# EAGLE library part HD-N103 (library display-hp)
LED DISPLAY 1-character 7 segment, decimal point right
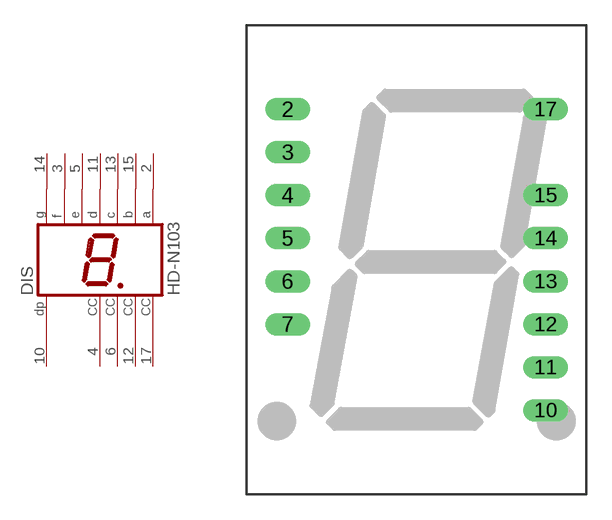
[diagram p29: symbol with the pads of HDSP-Q; footprint HDSP-Q]

Designator prefix DIS

## HD-N103 (OC_FARNELL: unknown; OC_NEWARK: unknown)  [HDSP-Q]
2  A  pas
3  F  pas
4  CC  pas
5  E  pas
6  CC  pas
10  DP  pas
11  D  pas
12  CC  pas
13  C  pas
14  G  pas
15  B  pas
17  CC  pas

## Footprint HDSP-Q (pad centres in mm)
LED DISPLAY 20-mm 1 character 7 segment, 2 decimal points
drill 0.813 long: 2 -7.62,8.89; 3 -7.62,6.35; 4 -7.62,3.81; 5 -7.62,1.27; 6 -7.62,-1.27; 7 -7.62,-3.81; 10 7.62,-8.89; 11 7.62,-6.35; 12 7.62,-3.81; 13 7.62,-1.27; 14 7.62,1.27; 15 7.62,3.81; 17 7.62,8.89